# Altium schematic symbol library analog.SchLib: 60 symbols
Pins are listed as number, name and electrical type; pins without a type are passive.

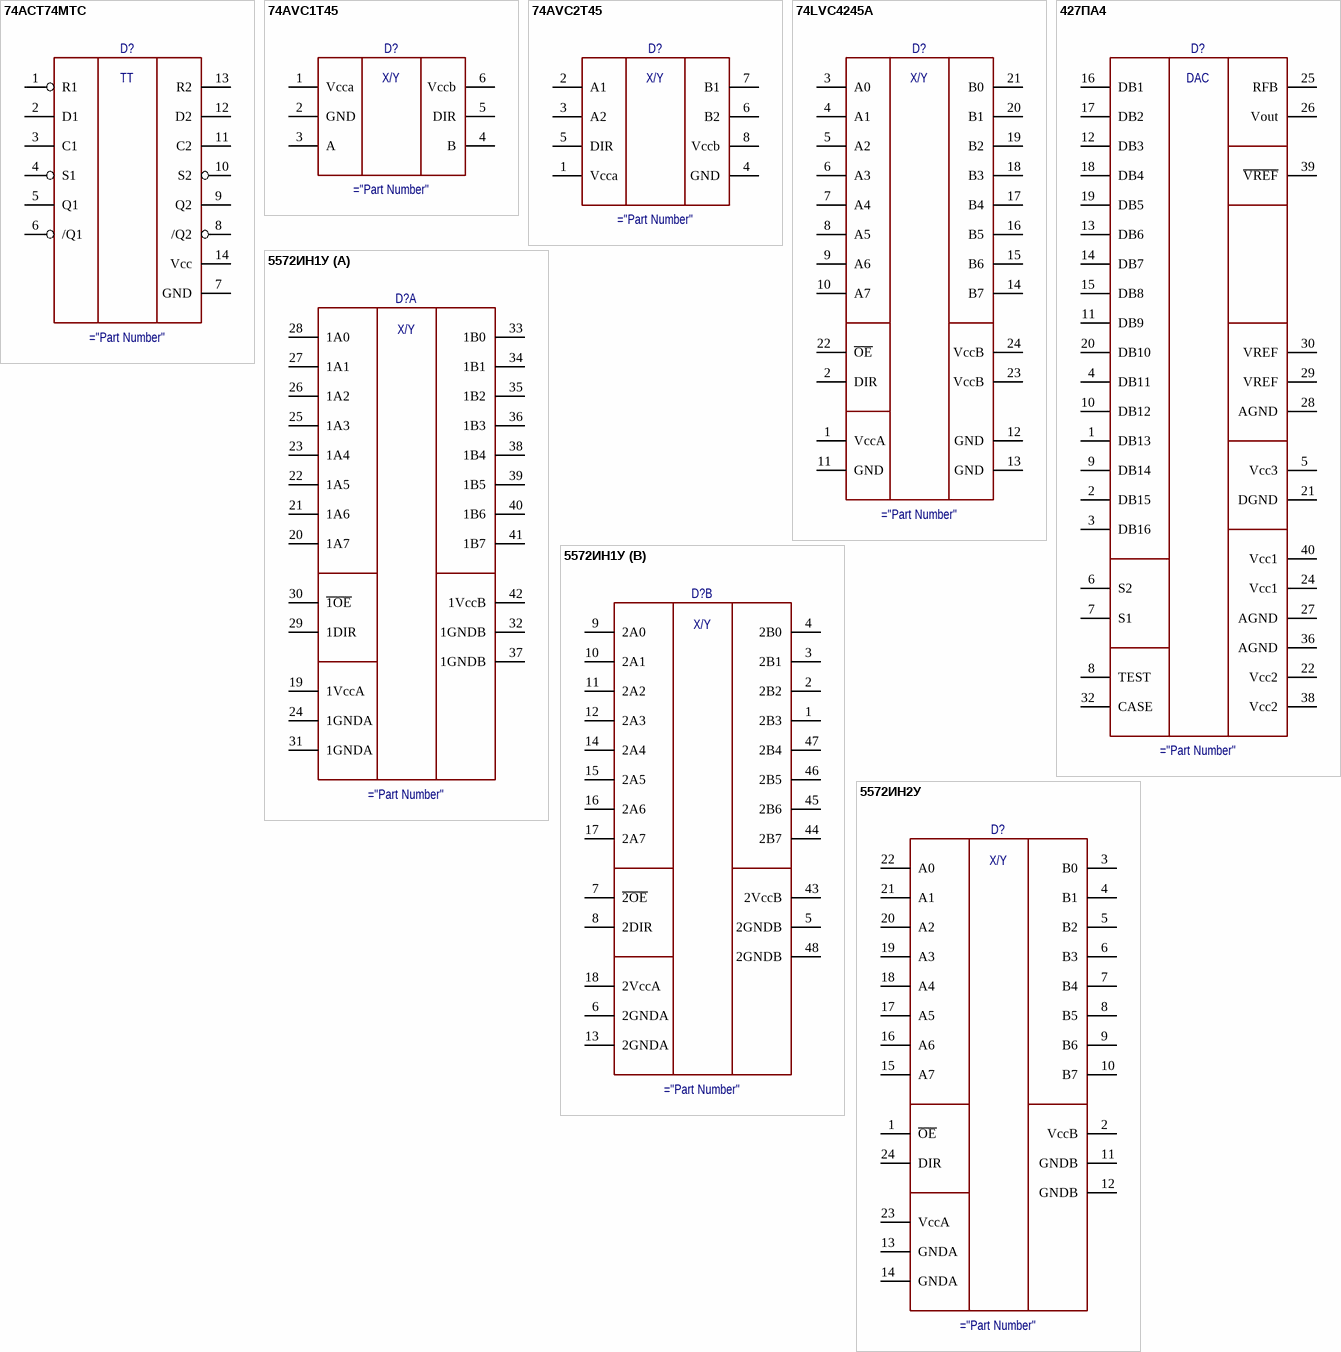
[diagram p0: symbols 74ACT74MTC to 5572ИН2У]

## 74ACT74MTC
designator D?
D-trigger 2-bit
pins: 1 R1, 2 D1, 3 C1, 4 S1, 5 Q1, 6 /Q1, 7 GND, 8 /Q2, 9 Q2, 10 S2, 11 C2, 12 D2, 13 R2, 14 Vcc
text: TT

## 74AVC1T45
designator D?
Buffer 1-bit
pins: 1 Vcca, 2 GND, 3 A, 4 B, 5 DIR, 6 Vccb
text: X/Y

## 74AVC2T45
designator D?
Buffer 2-bit
pins: 1 Vcca, 2 A1, 3 A2, 4 GND, 5 DIR, 6 B2, 7 B1, 8 Vccb
text: X/Y

## 74LVC4245A
designator D?
Buffer 8-bit
pins: 1 VccA, 2 DIR, 3 A0, 4 A1, 5 A2, 6 A3, 7 A4, 8 A5, 9 A6, 10 A7, 11 GND, 12 GND, 13 GND, 14 B7, 15 B6, 16 B5, 17 B4, 18 B3, 19 B2, 20 B1, 21 B0, 22 ~{OE}, 23 VccB, 24 VccB
text: X/Y

## 427ПА4
designator D?
DAC 16-bit
pins: 1 DB13, 2 DB15, 3 DB16, 4 DB11, 5 Vcc3, 6 S2, 7 S1, 8 TEST, 9 DB14, 10 DB12, 11 DB9, 12 DB3, 13 DB6, 14 DB7, 15 DB8, 16 DB1, 17 DB2, 18 DB4, 19 DB5, 20 DB10, 21 DGND, 22 Vcc2, 23 hidden, 24 Vcc1, 25 RFB, 26 Vout, 27 AGND, 28 AGND, 29 VREF, 30 VREF, 31 hidden, 32 CASE, 33 hidden, 34 hidden, 35 hidden, 36 AGND, 37 hidden, 38 Vcc2, 39 ~{VREF}, 40 Vcc1
text: DAC

## 5572ИН1У
designator D?
Buffer 16-bit
part A pins: 19 1VccA, 20 1A7, 21 1A6, 22 1A5, 23 1A4, 24 1GNDA, 25 1A3, 26 1A2, 27 1A1, 28 1A0, 29 1DIR, 30 ~{1OE}, 31 1GNDA, 32 1GNDB, 33 1B0, 34 1B1, 35 1B2, 36 1B3, 37 1GNDB, 38 1B4, 39 1B5, 40 1B6, 41 1B7, 42 1VccB
part B pins: 1 2B3, 2 2B2, 3 2B1, 4 2B0, 5 2GNDB, 6 2GNDA, 7 ~{2OE}, 8 2DIR, 9 2A0, 10 2A1, 11 2A2, 12 2A3, 13 2GNDA, 14 2A4, 15 2A5, 16 2A6, 17 2A7, 18 2VccA, 43 2VccB, 44 2B7, 45 2B6, 46 2B5, 47 2B4, 48 2GNDB
part A text: X/Y
part B text: X/Y

## 5572ИН2У
designator D?
Buffer 8-bit
pins: 1 ~{OE}, 2 VccB, 3 B0, 4 B1, 5 B2, 6 B3, 7 B4, 8 B5, 9 B6, 10 B7, 11 GNDB, 12 GNDB, 13 GNDA, 14 GNDA, 15 A7, 16 A6, 17 A5, 18 A4, 19 A3, 20 A2, 21 A1, 22 A0, 23 VccA, 24 DIR
text: X/Y

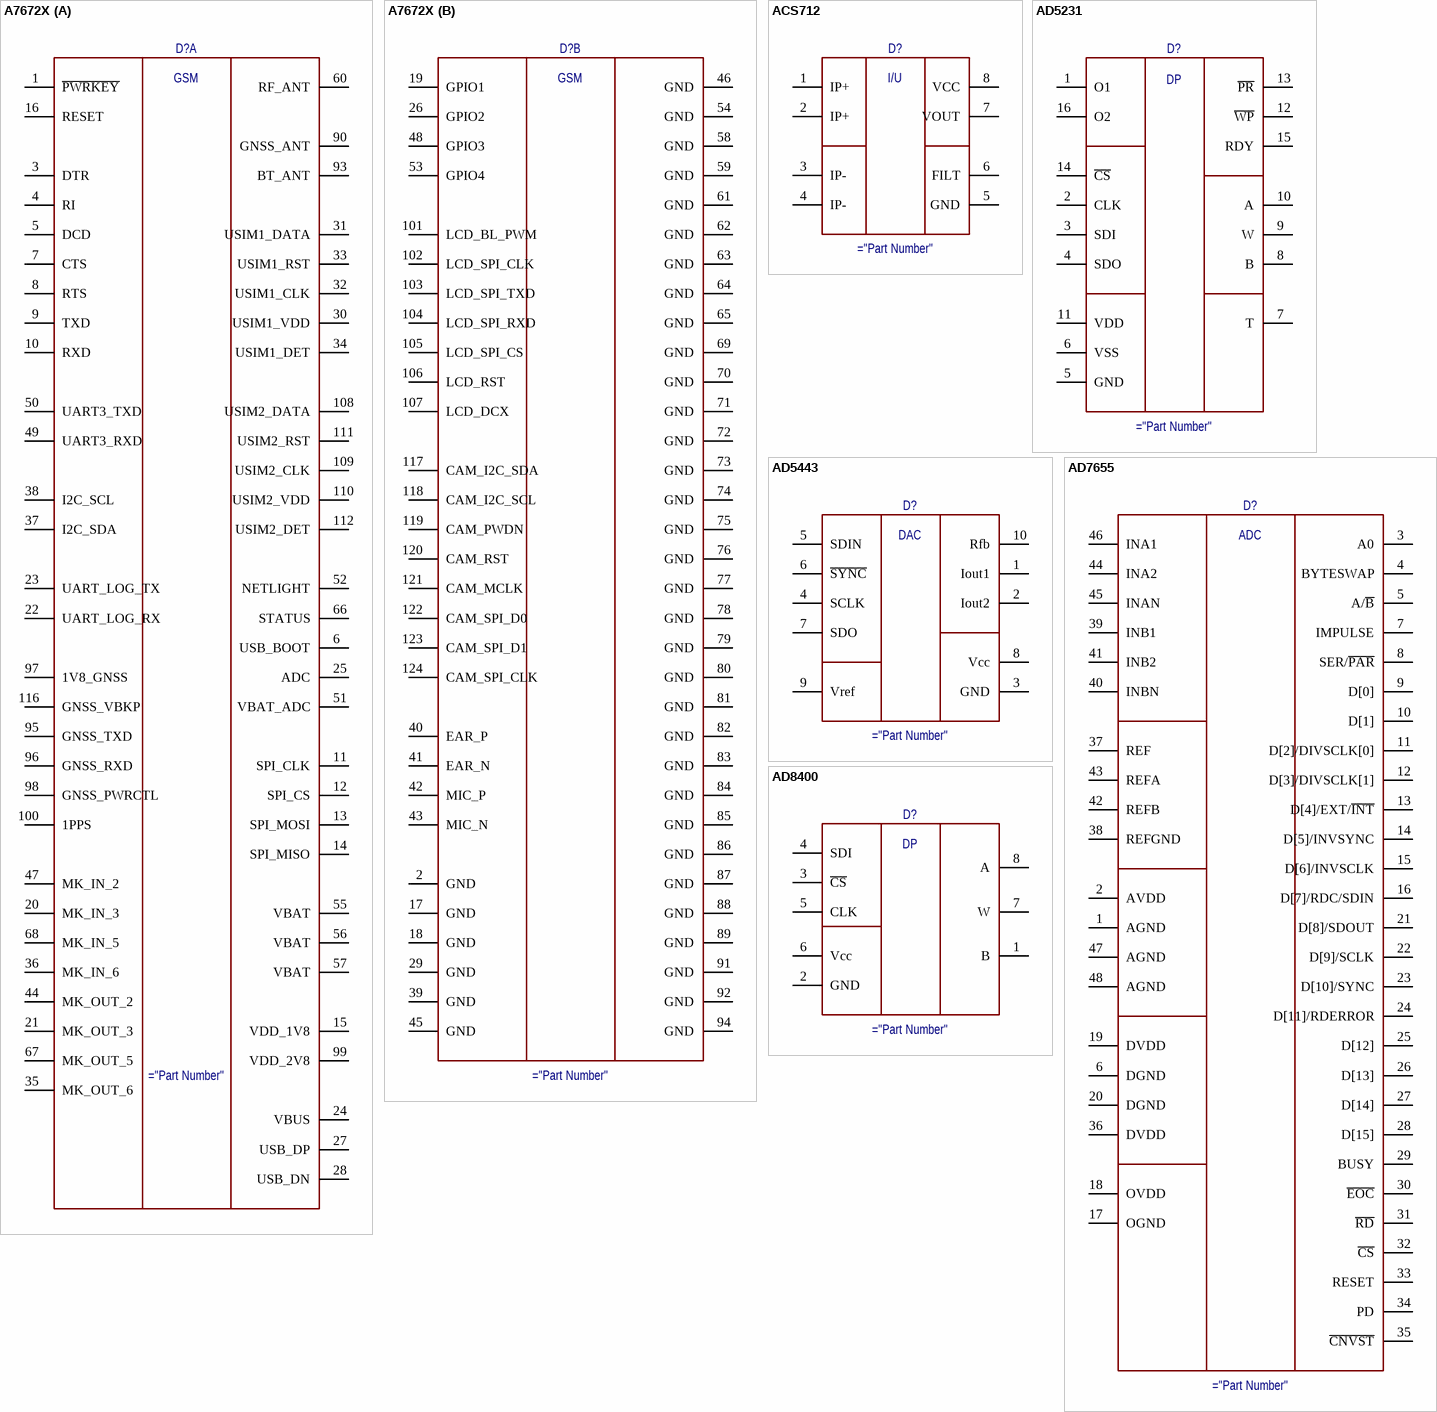
[diagram p1: symbols A7672X to AD8400]

## A7672X
designator D?
LPWA Module LTE Cat 1
part A pins: 1 ~{PWRKEY}, 3 DTR, 4 RI, 5 DCD, 6 USB_BOOT, 7 CTS, 8 RTS, 9 TXD, 10 RXD, 11 SPI_CLK, 12 SPI_CS, 13 SPI_MOSI, 14 SPI_MISO, 15 VDD_1V8, 16 RESET, 20 MK_IN_3, 21 MK_OUT_3, 22 UART_LOG_RX, 23 UART_LOG_TX, 24 VBUS, 25 ADC, 27 USB_DP, 28 USB_DN, 30 USIM1_VDD, 31 USIM1_DATA, 32 USIM1_CLK, 33 USIM1_RST, 34 USIM1_DET, 35 MK_OUT_6, 36 MK_IN_6, 37 I2C_SDA, 38 I2C_SCL, 44 MK_OUT_2, 47 MK_IN_2, 49 UART3_RXD, 50 UART3_TXD, 51 VBAT_ADC, 52 NETLIGHT, 55 VBAT, 56 VBAT, 57 VBAT, 60 RF_ANT, 66 STATUS, 67 MK_OUT_5, 68 MK_IN_5, 90 GNSS_ANT, 93 BT_ANT, 95 GNSS_TXD, 96 GNSS_RXD, 97 1V8_GNSS, 98 GNSS_PWRCTL, 99 VDD_2V8, 100 1PPS, 108 USIM2_DATA, 109 USIM2_CLK, 110 USIM2_VDD, 111 USIM2_RST, 112 USIM2_DET, 113 NC hidden, 114 NC hidden, 115 NC hidden, 116 GNSS_VBKP
part B pins: 2 GND, 17 GND, 18 GND, 19 GPIO1, 26 GPIO2, 29 GND, 39 GND, 40 EAR_P, 41 EAR_N, 42 MIC_P, 43 MIC_N, 45 GND, 46 GND, 48 GPIO3, 53 GPIO4, 54 GND, 58 GND, 59 GND, 61 GND, 62 GND, 63 GND, 64 GND, 65 GND, 69 GND, 70 GND, 71 GND, 72 GND, 73 GND, 74 GND, 75 GND, 76 GND, 77 GND, 78 GND, 79 GND, 80 GND, 81 GND, 82 GND, 83 GND, 84 GND, 85 GND, 86 GND, 87 GND, 88 GND, 89 GND, 91 GND, 92 GND, 94 GND, 101 LCD_BL_PWM, 102 LCD_SPI_CLK, 103 LCD_SPI_TXD, 104 LCD_SPI_RXD, 105 LCD_SPI_CS, 106 LCD_RST, 107 LCD_DCX, 117 CAM_I2C_SDA, 118 CAM_I2C_SCL, 119 CAM_PWDN, 120 CAM_RST, 121 CAM_MCLK, 122 CAM_SPI_D0, 123 CAM_SPI_D1, 124 CAM_SPI_CLK
part A text: GSM
part B text: GSM

## ACS712
designator D?
Current Sensor
pins: 1 IP+, 2 IP+, 3 IP-, 4 IP-, 5 GND, 6 FILT, 7 VOUT, 8 VCC
text: I/U

## AD5231
designator D?
Potentiometer 10-bit
pins: 1 O1, 2 CLK, 3 SDI, 4 SDO, 5 GND, 6 VSS, 7 T, 8 B, 9 W, 10 A, 11 VDD, 12 ~{WP}, 13 ~{PR}, 14 ~{CS}, 15 RDY, 16 O2
text: DP

## AD5443
designator D?
DAC 12-bit
pins: 1 Iout1, 2 Iout2, 3 GND, 4 SCLK, 5 SDIN, 6 ~{SYNC}, 7 SDO, 8 Vcc, 9 Vref, 10 Rfb
text: DAC

## AD7655
designator D?
ADC 16-bit, 4ch
pins: 1 AGND, 2 AVDD, 3 A0, 4 BYTESWAP, 5 A/~{B}, 6 DGND, 7 IMPULSE, 8 SER/~{PAR}, 9 D[0], 10 D[1], 11 D[2]/DIVSCLK[0], 12 D[3]/DIVSCLK[1], 13 D[4]/EXT/~{INT}, 14 D[5]/INVSYNC, 15 D[6]/INVSCLK, 16 D[7]/RDC/SDIN, 17 OGND, 18 OVDD, 19 DVDD, 20 DGND, 21 D[8]/SDOUT, 22 D[9]/SCLK, 23 D[10]/SYNC, 24 D[11]/RDERROR, 25 D[12], 26 D[13], 27 D[14], 28 D[15], 29 BUSY, 30 ~{EOC}, 31 ~{RD}, 32 ~{CS}, 33 RESET, 34 PD, 35 ~{CNVST}, 36 DVDD, 37 REF, 38 REFGND, 39 INB1, 40 INBN, 41 INB2, 42 REFB, 43 REFA, 44 INA2, 45 INAN, 46 INA1, 47 AGND, 48 AGND
text: ADC

## AD8400
designator D?
Potentiometer
pins: 1 B, 2 GND, 3 ~{CS}, 4 SDI, 5 CLK, 6 Vcc, 7 W, 8 A
text: DP

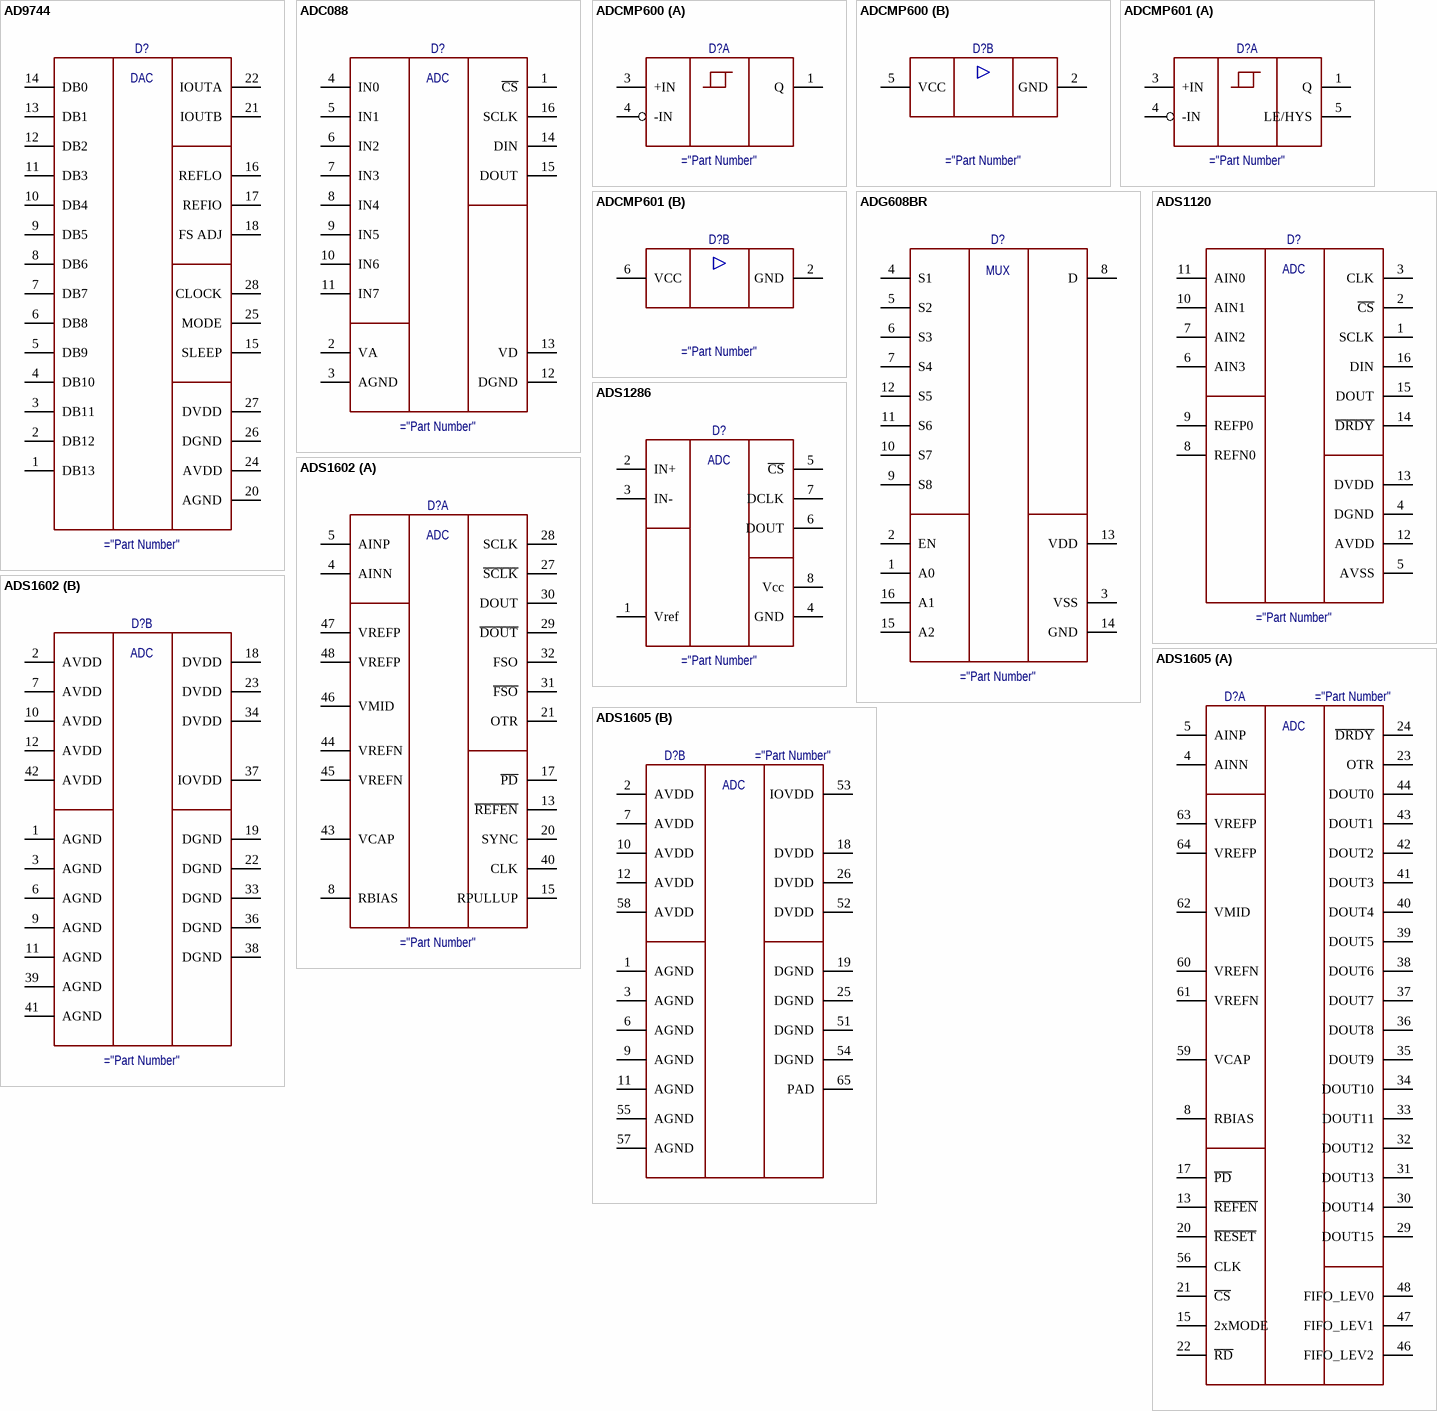
[diagram p2: symbols AD9744 to ADS1605]

## AD9744
designator D?
DAC 16-bit with Current Out
pins: 1 DB13, 2 DB12, 3 DB11, 4 DB10, 5 DB9, 6 DB8, 7 DB7, 8 DB6, 9 DB5, 10 DB4, 11 DB3, 12 DB2, 13 DB1, 14 DB0, 15 SLEEP, 16 REFLO, 17 REFIO, 18 FS ADJ, 19 NC hidden, 20 AGND, 21 IOUTB, 22 IOUTA, 23 RESERVED hidden, 24 AVDD, 25 MODE, 26 DGND, 27 DVDD, 28 CLOCK
text: DAC

## ADC088
designator D?
ADC 8-bit, 8ch
pins: 1 ~{CS}, 2 VA, 3 AGND, 4 IN0, 5 IN1, 6 IN2, 7 IN3, 8 IN4, 9 IN5, 10 IN6, 11 IN7, 12 DGND, 13 VD, 14 DIN, 15 DOUT, 16 SCLK
text: ADC

## ADCMP600
designator D?
Comparator
part A pins: 1 Q, 3 +IN, 4 -IN
part B pins: 2 GND, 5 VCC

## ADCMP601
designator D?
Comparator
part A pins: 1 Q, 3 +IN, 4 -IN, 5 LE/HYS
part B pins: 2 GND, 6 VCC

## ADG608BR
designator D?
Analog Mux 8ch
pins: 1 A0, 2 EN, 3 VSS, 4 S1, 5 S2, 6 S3, 7 S4, 8 D, 9 S8, 10 S7, 11 S6, 12 S5, 13 VDD, 14 GND, 15 A2, 16 A1
text: MUX

## ADS1120
designator D?
ADC 16-bit, 4ch
pins: 1 SCLK, 2 ~{CS}, 3 CLK, 4 DGND, 5 AVSS, 6 AIN3, 7 AIN2, 8 REFN0, 9 REFP0, 10 AIN1, 11 AIN0, 12 AVDD, 13 DVDD, 14 ~{DRDY}, 15 DOUT, 16 DIN
text: ADC

## ADS1286
designator D?
ADC 12-bit
pins: 1 Vref, 2 IN+, 3 IN-, 4 GND, 5 ~{CS}, 6 DOUT, 7 DCLK, 8 Vcc
text: ADC

## ADS1602
designator D?
ADC 16-bit
part A pins: 4 AINN, 5 AINP, 8 RBIAS, 13 ~{REFEN}, 14 NC hidden, 15 RPULLUP, 16 NC hidden, 17 ~{PD}, 20 SYNC, 21 OTR, 24 NC hidden, 25 NC hidden, 26 NC hidden, 27 ~{SCLK}, 28 SCLK, 29 ~{DOUT}, 30 DOUT, 31 ~{FSO}, 32 FSO, 35 NC hidden, 40 CLK, 43 VCAP, 44 VREFN, 45 VREFN, 46 VMID, 47 VREFP, 48 VREFP
part B pins: 1 AGND, 2 AVDD, 3 AGND, 6 AGND, 7 AVDD, 9 AGND, 10 AVDD, 11 AGND, 12 AVDD, 18 DVDD, 19 DGND, 22 DGND, 23 DVDD, 33 DGND, 34 DVDD, 36 DGND, 37 IOVDD, 38 DGND, 39 AGND, 41 AGND, 42 AVDD
part A text: ADC
part B text: ADC

## ADS1605
designator D?
16-bit, 5 MSPS ADC
part A pins: 4 AINN, 5 AINP, 8 RBIAS, 13 ~{REFEN}, 14 NC hidden, 15 2xMODE, 16 NC hidden, 17 ~{PD}, 20 ~{RESET}, 21 ~{CS}, 22 ~{RD}, 23 OTR, 24 ~{DRDY}, 27 NC hidden, 28 NC hidden, 29 DOUT15, 30 DOUT14, 31 DOUT13, 32 DOUT12, 33 DOUT11, 34 DOUT10, 35 DOUT9, 36 DOUT8, 37 DOUT7, 38 DOUT6, 39 DOUT5, 40 DOUT4, 41 DOUT3, 42 DOUT2, 43 DOUT1, 44 DOUT0, 45 NC hidden, 46 FIFO_LEV2, 47 FIFO_LEV1, 48 FIFO_LEV0, 50 NC hidden, 56 CLK, 59 VCAP, 60 VREFN, 61 VREFN, 62 VMID, 63 VREFP, 64 VREFP
part B pins: 1 AGND, 2 AVDD, 3 AGND, 6 AGND, 7 AVDD, 9 AGND, 10 AVDD, 11 AGND, 12 AVDD, 18 DVDD, 19 DGND, 25 DGND, 26 DVDD, 51 DGND, 52 DVDD, 53 IOVDD, 54 DGND, 55 AGND, 57 AGND, 58 AVDD, 65 PAD
part A text: ADC
part B text: ADC

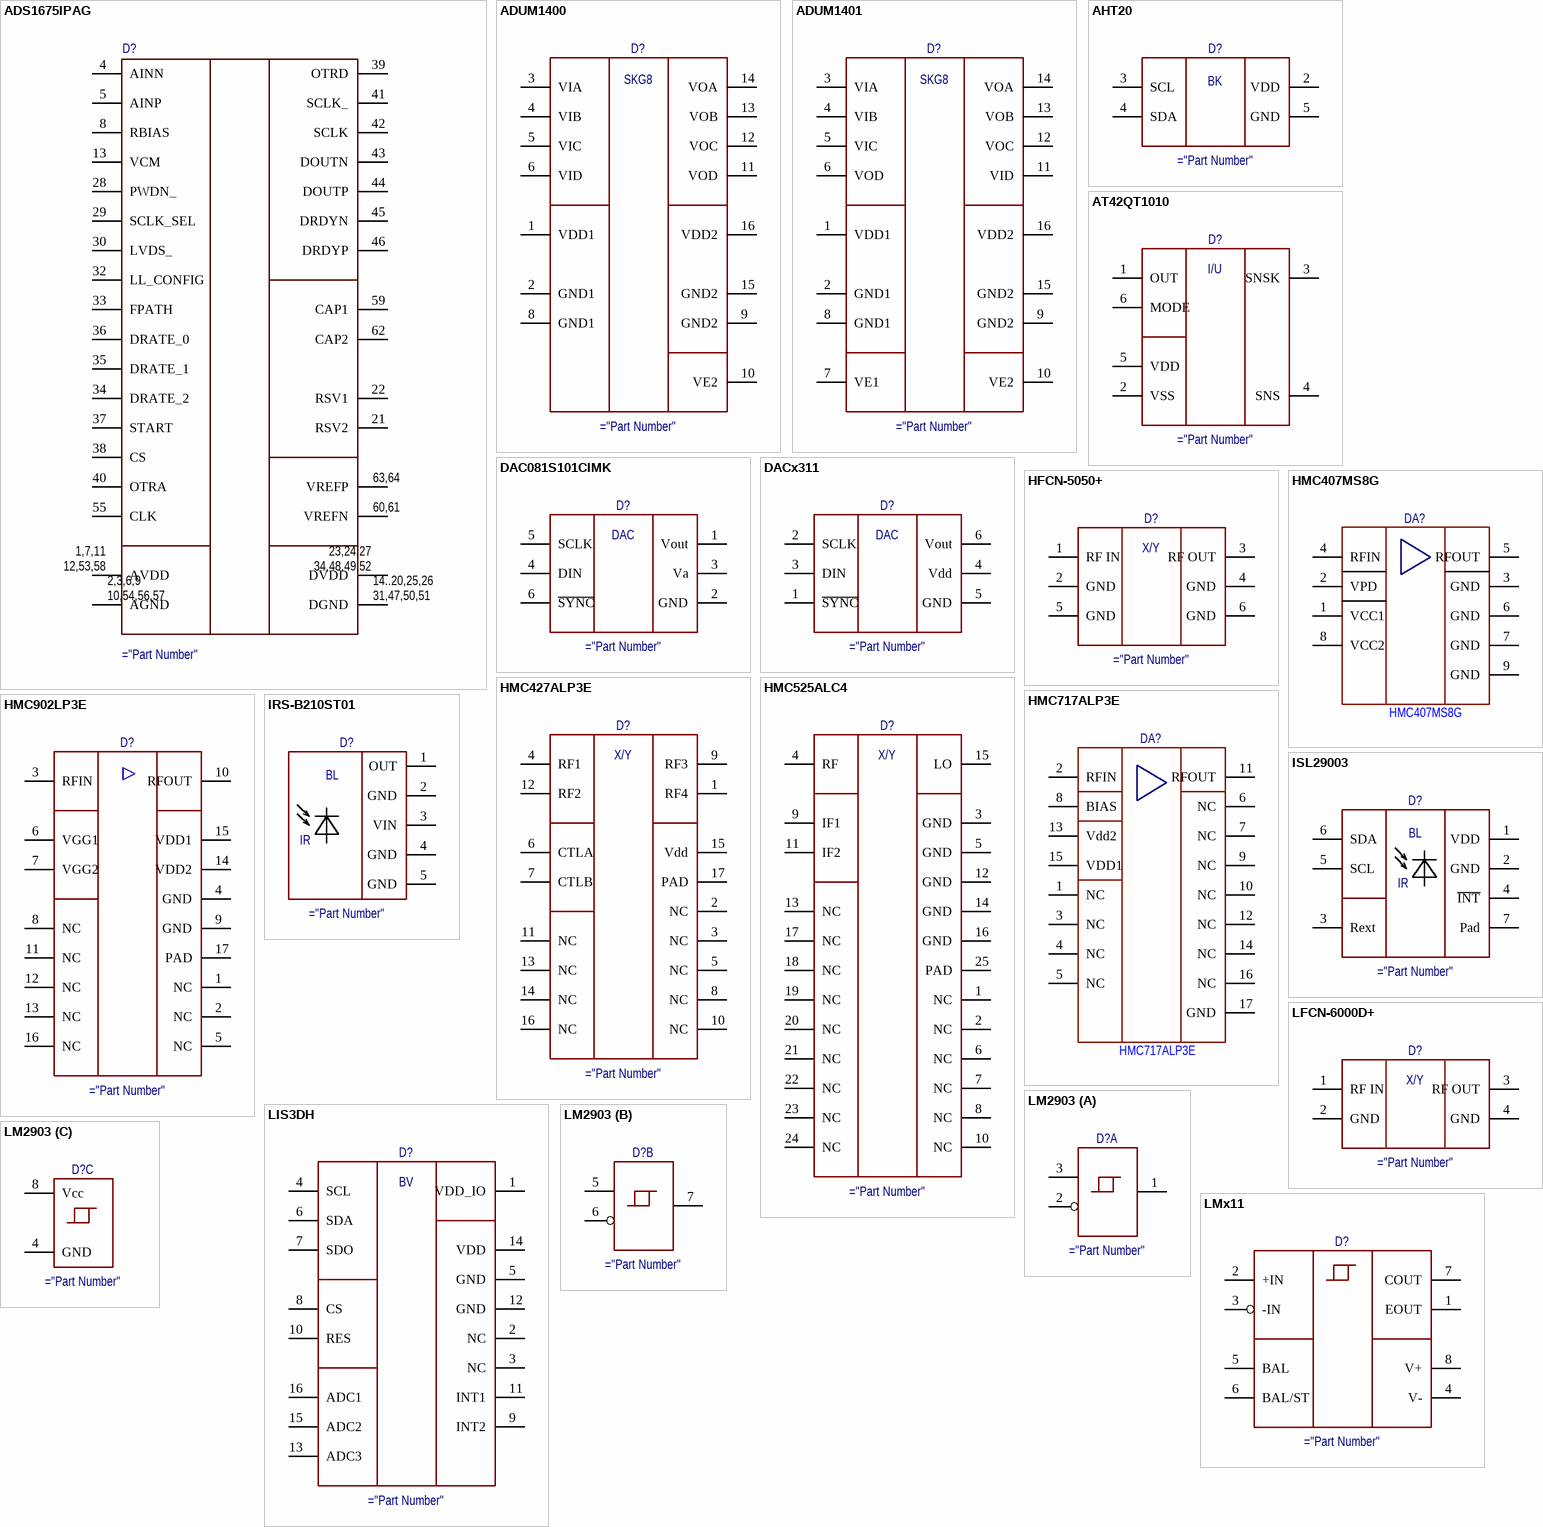
[diagram p3: symbols ADS1675IPAG to LMx11]

## ADS1675IPAG
designator D?
pins: 1 AVDD, 2 AGND, 3 AGND, 4 AINN, 5 AINP, 6 AGND, 7 AVDD, 8 RBIAS, 9 AGND, 10 AGND, 11 AVDD, 12 AVDD, 13 VCM, 14 DGND, 15 DGND, 16 DGND, 17 DGND, 18 DGND, 19 DGND, 20 DGND, 21 RSV2, 22 RSV1, 23 DVDD, 24 DVDD, 25 DGND, 26 DGND, 27 DVDD, 28 PWDN_, 29 SCLK_SEL, 30 LVDS_, 31 DGND, 32 LL_CONFIG, 33 FPATH, 34 DRATE_2, 35 DRATE_1, 36 DRATE_0, 37 START, 38 CS, 39 OTRD, 40 OTRA, 41 SCLK_, 42 SCLK, 43 DOUTN, 44 DOUTP, 45 DRDYN, 46 DRDYP, 47 DGND, 48 DVDD, 49 DVDD, 50 DGND, 51 DGND, 52 DVDD, 53 AVDD, 54 AGND, 55 CLK, 56 AGND, 57 AGND, 58 AVDD, 59 CAP1, 60 VREFN, 61 VREFN, 62 CAP2, 63 VREFP, 64 VREFP
text: 63,64; 60,61; 1,7,11; 23,24,27; 12,53,58; 34,48,49,52; 2,3,6,9; 14..20,25,26; 10,54,56,57; 31,47,50,51

## ADUM1400
designator D?
Isolator 4ch
pins: 1 VDD1, 2 GND1, 3 VIA, 4 VIB, 5 VIC, 6 VID, 7 NC hidden, 8 GND1, 9 GND2, 10 VE2, 11 VOD, 12 VOC, 13 VOB, 14 VOA, 15 GND2, 16 VDD2
text: SKG8

## ADUM1401
designator D?
Isolator 4ch
pins: 1 VDD1, 2 GND1, 3 VIA, 4 VIB, 5 VIC, 6 VOD, 7 VE1, 8 GND1, 9 GND2, 10 VE2, 11 VID, 12 VOC, 13 VOB, 14 VOA, 15 GND2, 16 VDD2
text: SKG8

## AHT20
designator D?
Humidity Temperature Sensor
pins: 1 hidden, 2 VDD, 3 SCL, 4 SDA, 5 GND, 6 hidden
text: BK

## AT42QT1010
designator D?
Touch Sensor
pins: 1 OUT, 2 VSS, 3 SNSK, 4 SNS, 5 VDD, 6 MODE
text: I/U

## DAC081S101CIMK
designator D?
DAC 8-bit with Rail-to-Rail Out
pins: 1 Vout, 2 GND, 3 Va, 4 DIN, 5 SCLK, 6 ~{SYNC}
text: DAC

## DACx311
designator D?
DAC 8,10,12-bit, with Rail-to-Rail Out
pins: 1 ~{SYNC}, 2 SCLK, 3 DIN, 4 Vdd, 5 GND, 6 Vout
text: DAC

## HFCN-5050+
designator D?
High Pass Filter
pins: 1 RF IN, 2 GND, 3 RF OUT, 4 GND, 5 GND, 6 GND
text: X/Y

## HMC407MS8G
designator DA?
POWER AMPLIFIER, 5 - 7 GHz  Gain: 15 dB / Saturated Power: +29 dBm / 28% PAE / Supply Voltage: +5V; Manufactured: ANALOG DEVICED; PartNumber: HMC407MS8G; ComponentLink1Description: DataSheet; ComponentLink1URL: https://www.micro-semiconductor.com/datasheet/21-HMC407MS8GETR.pdf
footprint HMC407MS8G
pins: 1 VCC1, 2 VPD, 3 GND, 4 RFIN, 5 RFOUT, 6 GND, 7 GND, 8 VCC2, 9 GND

## HMC427ALP3E
designator D?
RF Transfer Switch
pins: 1 RF4, 2 NC, 3 NC, 4 RF1, 5 NC, 6 CTLA, 7 CTLB, 8 NC, 9 RF3, 10 NC, 11 NC, 12 RF2, 13 NC, 14 NC, 15 Vdd, 16 NC, 17 PAD
text: X/Y

## HMC525ALC4
designator D?
RF I/Q Mixer
pins: 1 NC, 2 NC, 3 GND, 4 RF, 5 GND, 6 NC, 7 NC, 8 NC, 9 IF1, 10 NC, 11 IF2, 12 GND, 13 NC, 14 GND, 15 LO, 16 GND, 17 NC, 18 NC, 19 NC, 20 NC, 21 NC, 22 NC, 23 NC, 24 NC, 25 PAD
text: X/Y

## HMC717ALP3E
designator DA?
LOW NOISE AMPLIFIER, 4.8 - 6.0 GHz              Noise Figure: 1.1 dB / Gain: 14.5 dB / Output IP3: +29.5 dBm / Single Supply: +3V to +5V / 16 Lead 3x3mm QFN; Manufacturer: Analog Devices; PartNumber: HMC717ALP3E; ComponentLink1Description: DataSheet; ComponentLink1URL: *
footprint QFN50P300X300X100_HS-17N (QFN, 16-Leads, Body 3,00x3,00mm, Pitch 0,50mm, Thermal Pad 1,73x1,73mm, IPC Medium Density)
pins: 1 NC, 2 RFIN, 3 NC, 4 NC, 5 NC, 6 NC, 7 NC, 8 BIAS, 9 NC, 10 NC, 11 RFOUT, 12 NC, 13 Vdd2, 14 NC, 15 VDD1, 16 NC, 17 GND

## HMC902LP3E
designator D?
RF Low Noise Amplifier
pins: 1 NC, 2 NC, 3 RFIN, 4 GND, 5 NC, 6 VGG1, 7 VGG2, 8 NC, 9 GND, 10 RFOUT, 11 NC, 12 NC, 13 NC, 14 VDD2, 15 VDD1, 16 NC, 17 PAD

## IRS-B210ST01
designator D?
PIR Sensor Motion
pins: 1 OUT, 2 GND, 3 hidden, 3 VIN, 4 hidden, 4 GND, 5 GND, 7 hidden
text: BL; IR

## ISL29003
designator D?
Optical Sensor
pins: 1 VDD, 2 GND, 3 Rext, 4 ~{INT}, 5 SCL, 6 SDA, 7 Pad
text: BL; IR

## LFCN-6000D+
designator D?
Low Pass Filter
pins: 1 RF IN, 2 GND, 3 RF OUT, 4 GND
text: X/Y

## LIS3DH
designator D?
Accelerometer
pins: 1 VDD_IO, 2 NC, 3 NC, 4 SCL, 5 GND, 6 SDA, 7 SDO, 8 CS, 9 INT2, 10 RES, 11 INT1, 12 GND, 13 ADC3, 14 VDD, 15 ADC2, 16 ADC1
text: BV

## LM2903
designator D?
Comparator 2ch
part A pins: 1 OUT, 2 INA-, 3 INA+
part B pins: 5 INB+, 6 INB-, 7 OUT
part C pins: 4 GND, 8 Vcc

## LMx11
designator D?
Comparator
pins: 1 EOUT, 2 +IN, 3 -IN, 4 V-, 5 BAL, 6 BAL/ST, 7 COUT, 8 V+

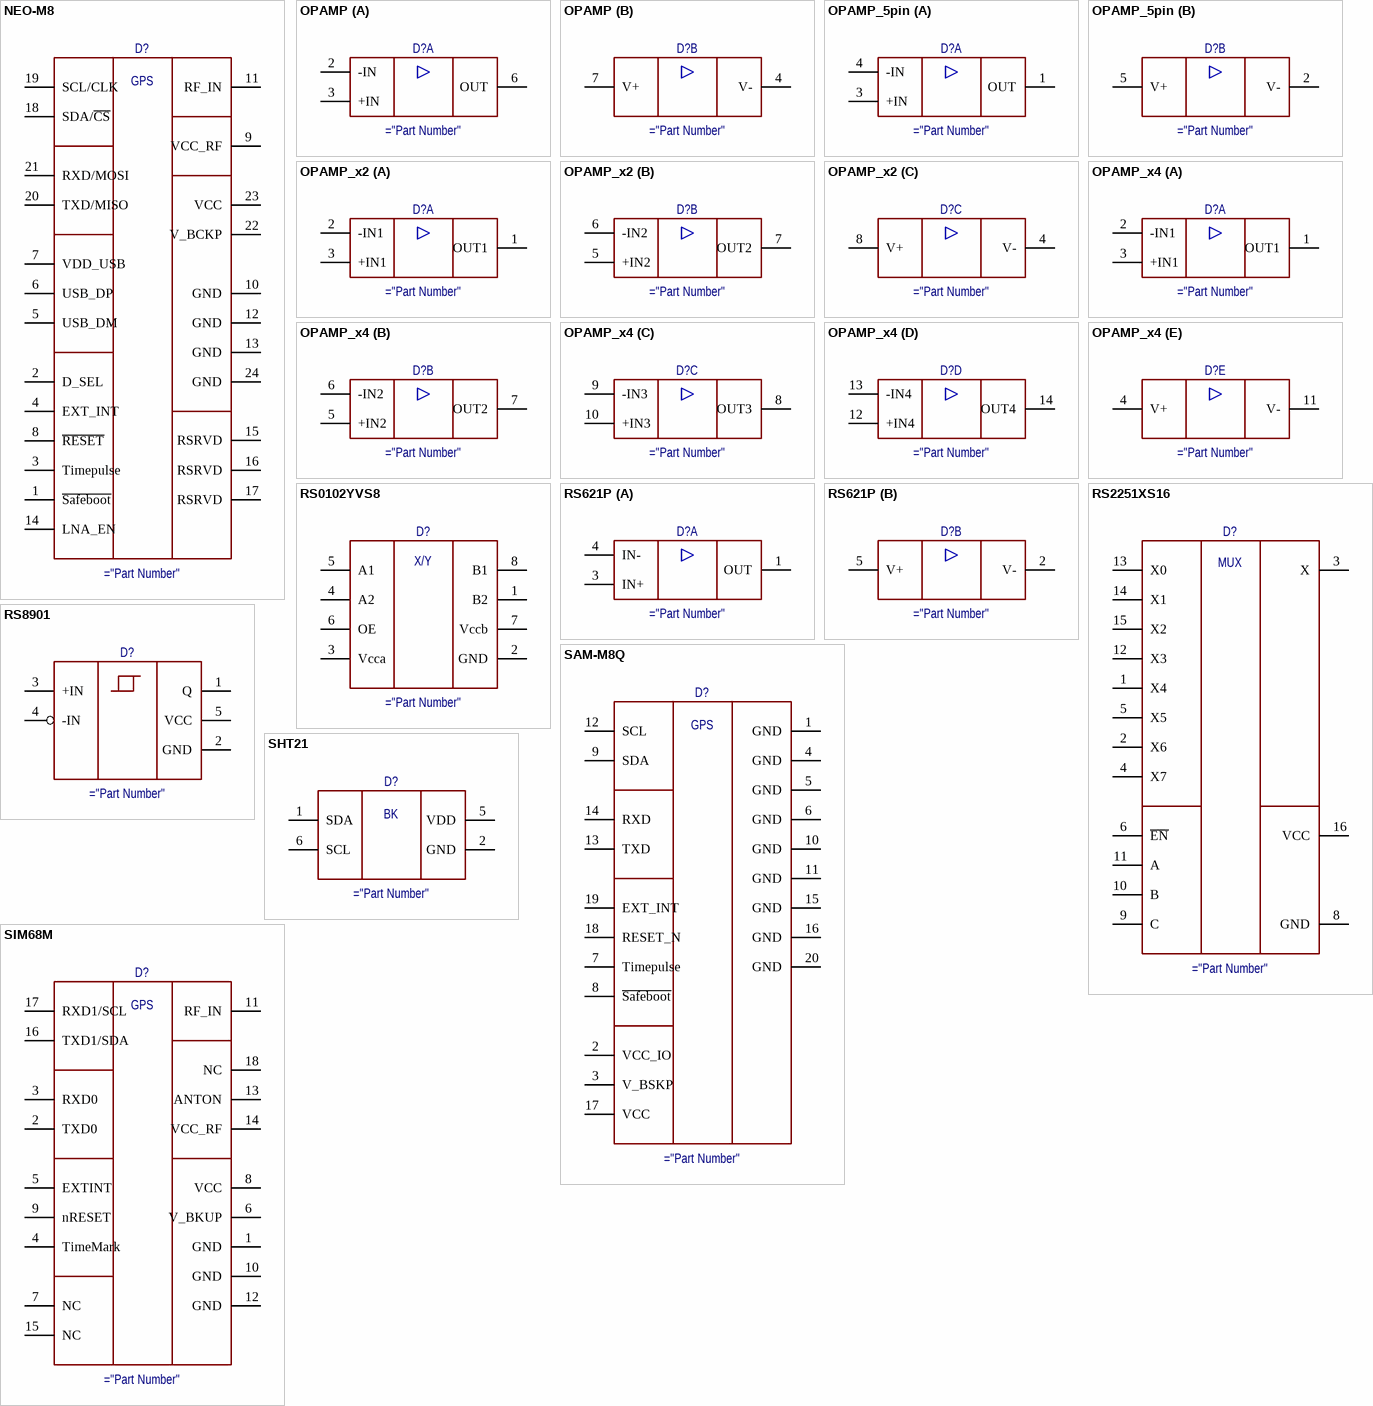
[diagram p4: symbols NEO-M8 to SIM68M]

## NEO-M8
designator D?
GPS Module
pins: 1 ~{Safeboot}, 2 D_SEL, 3 Timepulse, 4 EXT_INT, 5 USB_DM, 6 USB_DP, 7 VDD_USB, 8 ~{RESET}, 9 VCC_RF, 10 GND, 11 RF_IN, 12 GND, 13 GND, 14 LNA_EN, 15 RSRVD, 16 RSRVD, 17 RSRVD, 18 SDA/~{CS}, 19 SCL/CLK, 20 TXD/MISO, 21 RXD/MOSI, 22 V_BCKP, 23 VCC, 24 GND
text: GPS

## OPAMP
designator D?
Generic OPAMP, 8pin
part A pins: 2 -IN, 3 +IN, 6 OUT
part B pins: 4 V-, 7 V+

## OPAMP_5pin
designator D?
Generic OPAMP, 5pin
part A pins: 1 OUT, 3 +IN, 4 -IN
part B pins: 2 V-, 5 V+

## OPAMP_x2
designator D?
Generic OPAMP 2ch
part A pins: 1 OUT1, 2 -IN1, 3 +IN1
part B pins: 5 +IN2, 6 -IN2, 7 OUT2
part C pins: 4 V-, 8 V+

## OPAMP_x4
designator D?
Generic OPAMP 4ch
part A pins: 1 OUT1, 2 -IN1, 3 +IN1
part B pins: 5 +IN2, 6 -IN2, 7 OUT2
part C pins: 8 OUT3, 9 -IN3, 10 +IN3
part D pins: 12 +IN4, 13 -IN4, 14 OUT4
part E pins: 4 V+, 11 V-

## RS0102YVS8
designator D?
Buffer 2-bit
pins: 1 B2, 2 GND, 3 Vcca, 4 A2, 5 A1, 6 OE, 7 Vccb, 8 B1
text: X/Y

## RS621P
designator D?
Generic OPAMP
part A pins: 1 OUT, 3 IN+, 4 IN-
part B pins: 2 V-, 5 V+

## RS2251XS16
designator D?
Analog Mux 8ch
pins: 1 X4, 2 X6, 3 X, 4 X7, 5 X5, 6 ~{EN}, 7 NC hidden, 8 GND, 9 C, 10 B, 11 A, 12 X3, 13 X0, 14 X1, 15 X2, 16 VCC
text: MUX

## RS8901
designator D?
Comparator
pins: 1 Q, 2 GND, 3 +IN, 4 -IN, 5 VCC

## SAM-M8Q
designator D?
GPS Module
pins: 1 GND, 2 VCC_IO, 3 V_BSKP, 4 GND, 5 GND, 6 GND, 7 Timepulse, 8 ~{Safeboot}, 9 SDA, 10 GND, 11 GND, 12 SCL, 13 TXD, 14 RXD, 15 GND, 16 GND, 17 VCC, 18 RESET_N, 19 EXT_INT, 20 GND
text: GPS

## SHT21
designator D?
Humidity Temperature Sensor
pins: 1 SDA, 2 GND, 3 hidden, 4 hidden, 5 VDD, 6 SCL, 7 hidden
text: BK

## SIM68M
designator D?
GPS Module
pins: 1 GND, 2 TXD0, 3 RXD0, 4 TimeMark, 5 EXTINT, 6 V_BKUP, 7 NC, 8 VCC, 9 nRESET, 10 GND, 11 RF_IN, 12 GND, 13 ANTON, 14 VCC_RF, 15 NC, 16 TXD1/SDA, 17 RXD1/SCL, 18 NC
text: GPS

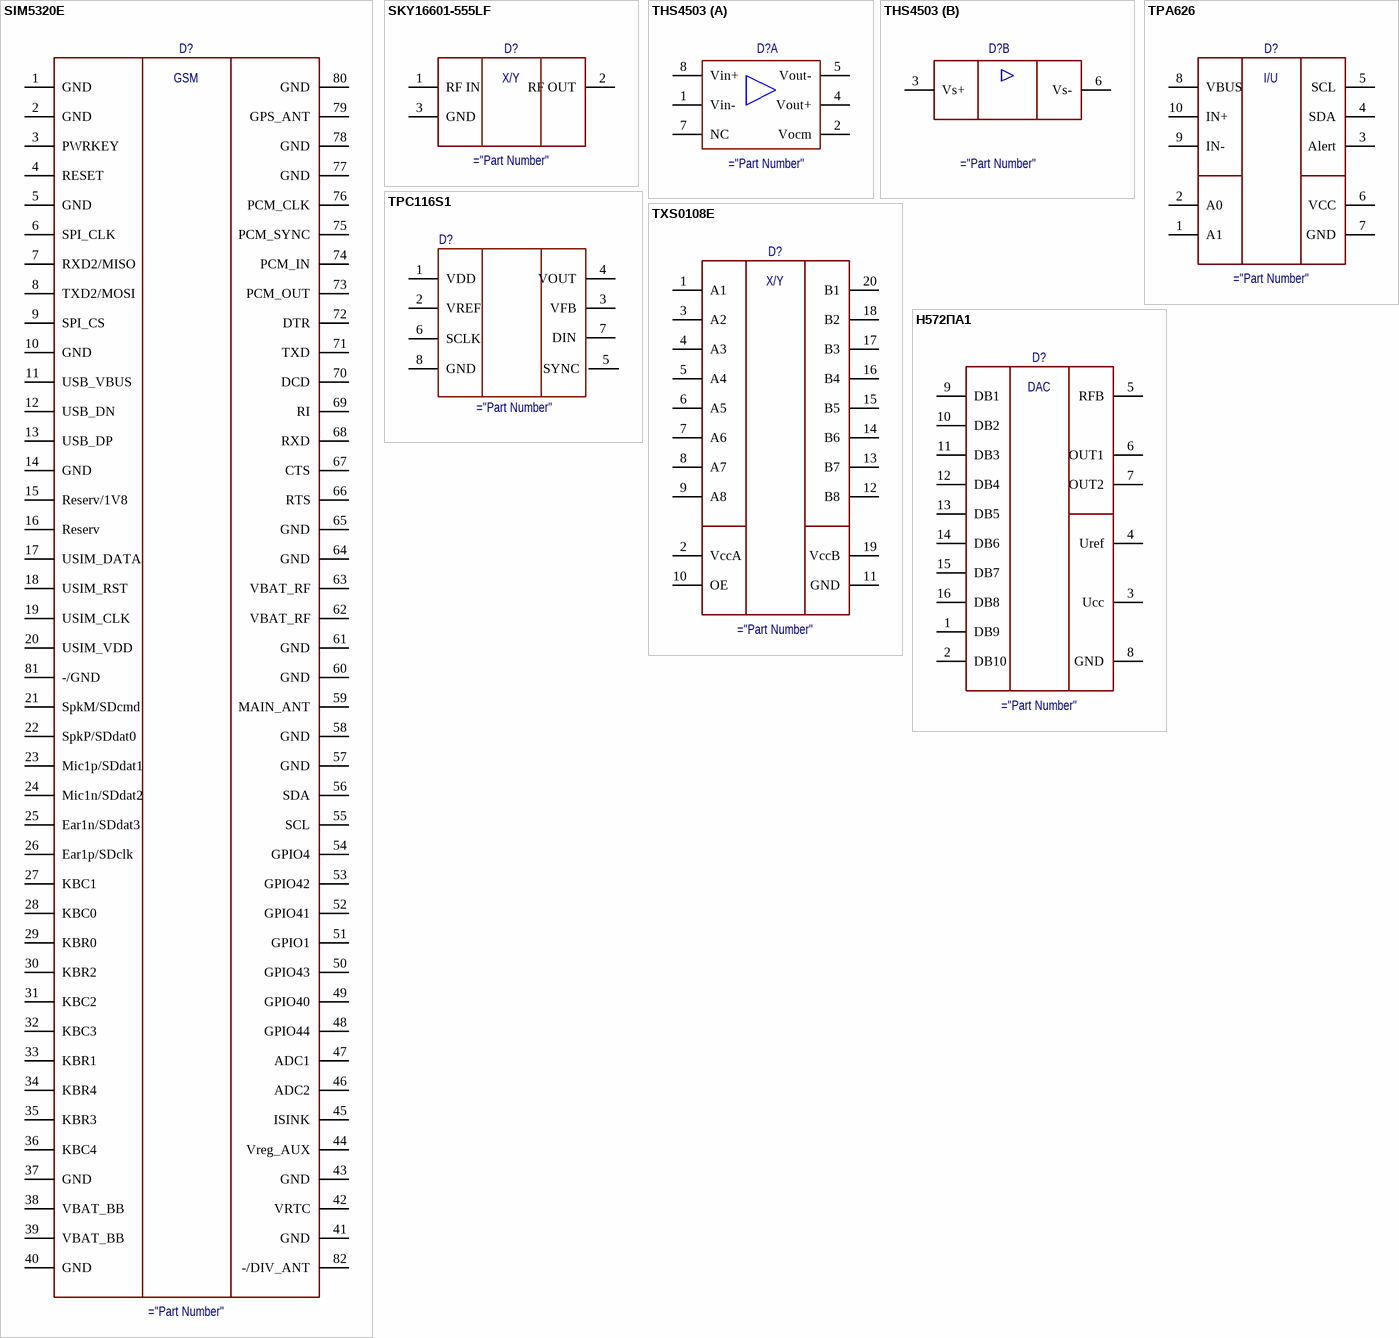
[diagram p5: symbols SIM5320E to Н572ПА1]

## SIM5320E
designator D?
GSM Module
pins: 1 GND, 2 GND, 3 PWRKEY, 4 RESET, 5 GND, 6 SPI_CLK, 7 RXD2/MISO, 8 TXD2/MOSI, 9 SPI_CS, 10 GND, 11 USB_VBUS, 12 USB_DN, 13 USB_DP, 14 GND, 15 Reserv/1V8, 16 Reserv, 17 USIM_DATA, 18 USIM_RST, 19 USIM_CLK, 20 USIM_VDD, 21 SpkM/SDcmd, 22 SpkP/SDdat0, 23 Mic1p/SDdat1, 24 Mic1n/SDdat2, 25 Ear1n/SDdat3, 26 Ear1p/SDclk, 27 KBC1, 28 KBC0, 29 KBR0, 30 KBR2, 31 KBC2, 32 KBC3, 33 KBR1, 34 KBR4, 35 KBR3, 36 KBC4, 37 GND, 38 VBAT_BB, 39 VBAT_BB, 40 GND, 41 GND, 42 VRTC, 43 GND, 44 Vreg_AUX, 45 ISINK, 46 ADC2, 47 ADC1, 48 GPIO44, 49 GPIO40, 50 GPIO43, 51 GPIO1, 52 GPIO41, 53 GPIO42, 54 GPIO4, 55 SCL, 56 SDA, 57 GND, 58 GND, 59 MAIN_ANT, 60 GND, 61 GND, 62 VBAT_RF, 63 VBAT_RF, 64 GND, 65 GND, 66 RTS, 67 CTS, 68 RXD, 69 RI, 70 DCD, 71 TXD, 72 DTR, 73 PCM_OUT, 74 PCM_IN, 75 PCM_SYNC, 76 PCM_CLK, 77 GND, 78 GND, 79 GPS_ANT, 80 GND, 81 -/GND, 82 -/DIV_ANT
text: GSM

## SKY16601-555LF
designator D?
Integrated Single-Stage PIN Diode Limiter / Module 0.50 to 6.0 GHz
pins: 1 RF IN, 2 RF OUT, 3 GND
text: X/Y

## THS4503
designator D?
part A pins: 1 Vin-, 2 Vocm, 4 Vout+, 5 Vout-, 7 NC, 8 Vin+
part B pins: 3 Vs+, 6 Vs-

## TPA626
designator D?
Current Sensor
pins: 1 A1, 2 A0, 3 Alert, 4 SDA, 5 SCL, 6 VCC, 7 GND, 8 VBUS, 9 IN-, 10 IN+
text: I/U

## TPC116S1
designator D?
DAC TPC116S1-VR
pins: 1 VDD, 2 VREF, 3 VFB, 4 VOUT, 5 SYNC, 6 SCLK, 7 DIN, 8 GND

## TXS0108E
designator D?
Buffer 8-bit BiDirectional
pins: 1 A1, 2 VccA, 3 A2, 4 A3, 5 A4, 6 A5, 7 A6, 8 A7, 9 A8, 10 OE, 11 GND, 12 B8, 13 B7, 14 B6, 15 B5, 16 B4, 17 B3, 18 B2, 19 VccB, 20 B1
text: X/Y

## Н572ПА1
designator D?
DAC 10-bit
pins: 1 DB9, 2 DB10, 3 Ucc, 4 Uref, 5 RFB, 6 OUT1, 7 OUT2, 8 GND, 9 DB1, 10 DB2, 11 DB3, 12 DB4, 13 DB5, 14 DB6, 15 DB7, 16 DB8, 23 hidden, 31 hidden, 33 hidden, 34 hidden, 35 hidden, 37 hidden
text: DAC